# Altium schematic symbol library Power.SchLib: 9 symbols
Pins are listed as number, name and electrical type; pins without a type are passive.

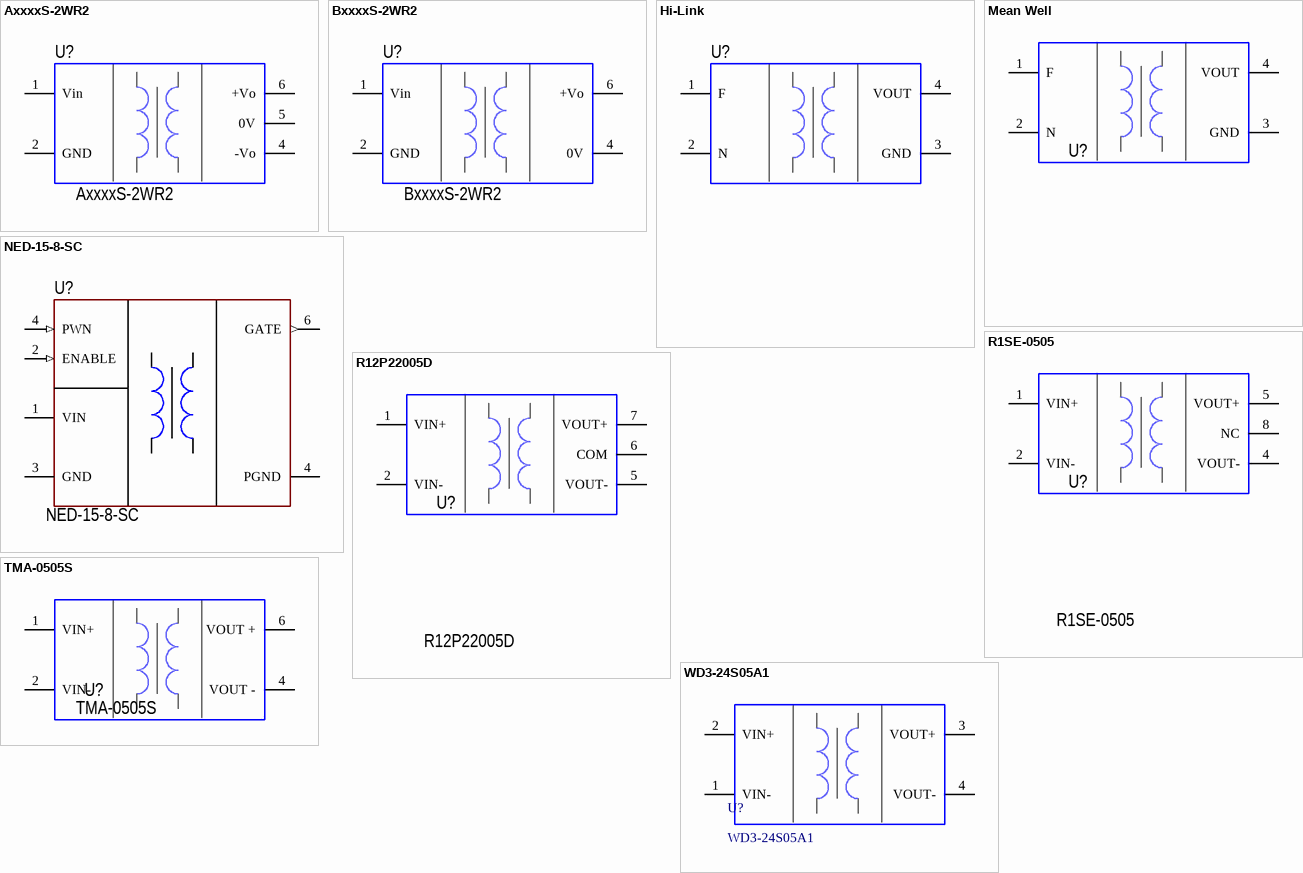
[diagram p0: symbols AxxxxS-2WR2 to WD3-24S05A1]

## AxxxxS-2WR2
designator U?
Isolator DC; Manufacturer: Traco Power; Model: TMA-0505S; ComponentKind: 1W; HelpURL: https://www.chipdip.ru/product/tma0505s
footprint AxxxxS-2WR2
pins: 1 Vin (power), 2 GND (power), 4 -Vo (power), 5 0V (power), 6 +Vo (power)

## BxxxxS-2WR2
designator U?
Isolator DC; Manufacturer: Traco Power; Model: TMA-0505S; ComponentKind: 1W; HelpURL: https://www.chipdip.ru/product/tma0505s
footprint BxxxxS-2WR2
pins: 1 Vin (power), 2 GND (power), 4 0V (power), 6 +Vo (power)

## Hi-Link
designator U?
AC/DC Power Supply Module; Manufacturer: China; Model: HLK-PM12; ComponentKind: 3W; HelpURL: https://ru.aliexpress.com/item/AC-DC-220V-to-12V-Buck-Step-Down-Power-Supply-Module-Converter-Intelligent-Household-Switch-HLK/32655916720.html?spm=a2g0s.13010208.99999999.272.4e5e3c00NHPqSK
footprint HLK-PM01
pins: 1 F (power), 2 N (power), 3 GND (power), 4 VOUT (power)

## Mean Well
designator U?
Isolator DC; Manufacturer: MEAN WELL; Model: IRM-10-12; ComponentKind: 10W; HelpURL: https://ru.mouser.com/ProductDetail/MEAN-WELL/IRM-10-12?qs=%2fha2pyFaduinEh%2fsL8Dm3dC%2f6llusOicbYSZP6avck9m518FKrUQ9Q%3d%3d
footprint IRM-10-12
footprint IRM-20-12
footprint IRM-45-15
pins: 1 F (power), 2 N (power), 3 GND (power), 4 VOUT (power)

## NED-15-8-SC
designator U?
Isolator DC; Manufacturer: Traco Power; Model: NED-15-8-SC; ComponentKind: 1W; HelpURL: https://www.chipdip.ru/product/tma0505s
footprint NED-15-8-SC
pins: 1 VIN (power), 2 ENABLE (in), 3 GND (power), 4 PGND (power), 4 PWN (in), 6 GATE (out)

## R1SE-0505
designator U?
Isolator DC; Manufacturer: RECOM Power; Model: R1SE-0505; ComponentKind: 1W; HelpURL: https://ru.mouser.com/ProductDetail/RECOM-Power/R1SE-0505-R?qs=%2fha2pyFaduhEzWeyu9RcrtYl%2fPhjLX%2fFHVUmin5SzckWK4wUC7NEgw%3d%3d
footprint RECOM R1SE
pins: 1 VIN+ (power), 2 VIN- (power), 4 VOUT- (power), 5 VOUT+ (power), 8 NC (power)

## R12P22005D
designator U?
Isolator DC; Manufacturer: Recom Power; Model: R12P22005D; ComponentKind: 2W; HelpURL: https://www.digikey.com/product-detail/en/recom-power/R12P22005D/945-3056-ND/5881287
footprint RECOM R12P22005D
pins: 1 VIN+ (power), 2 VIN- (power), 5 VOUT- (power), 6 COM (power), 7 VOUT+ (power)

## TMA-0505S
designator U?
Isolator DC; Manufacturer: Traco Power; Model: TMA-0505S; ComponentKind: 1W; HelpURL: https://www.chipdip.ru/product/tma0505s
footprint TMA-0505S
pins: 1 VIN+ (power), 2 VIN- (power), 4 VOUT - (power), 6 VOUT + (power)

## WD3-24S05A1
designator U?
Isolator DC; BOM名称: 24V转5V模块; 版权归属: 源创客; 学习资源: www.ooocke.com
footprint WD-24S05A1 (3W-24Vת5Vģ��)
pins: 1 VIN- (power), 2 VIN+ (power), 3 VOUT+ (power), 4 VOUT- (power)